# Altium footprint library molex-mod.PcbLib: 1 footprints
Each footprint in its own frame and in the unit in brackets; x right, y up, seen from the top. Pads: shape width x height; smd on the part's side, far side on the other; paste and mask are expansions set on the pad; w line width, h text height; cw(c..) or ccw(c..) is an arc to the next point about the centre after c.
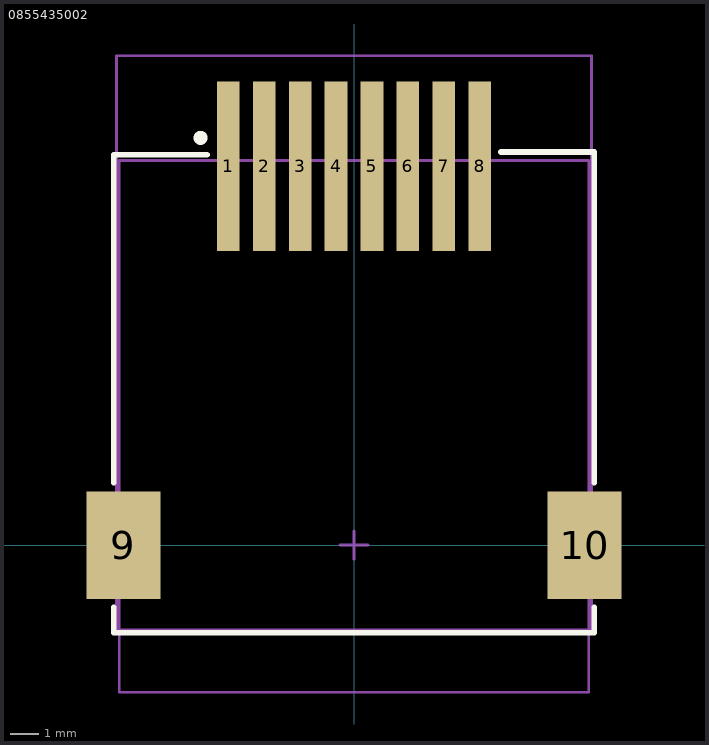
[diagram p0: the footprint, top view; thin cyan lines are the x and y axes]

## 0855435002 [mm] "Modular Jack, Right Angle, Fully Shielded, True SMT, BLI 13, Cat5"
height 13
pads (10):
  rect 0.8x6 smd: 1(-4.445,13.4) 2(-3.175,13.4) 3(-1.905,13.4) 4(-0.635,13.4) 5(0.635,13.4) 6(1.905,13.4) 7(3.175,13.4) 8(4.445,13.4)
  rect 2.6x3.8 smd: 9(-8.15,0) 10(8.15,0)
Top Overlay:
  circle w0.25: c-5.425,14.4 r0.125
  lines w0.2: -8.5,-2.2 -8.5,-3.1 8.5,-3.1 8.5,-2.2 ; -8.5,2.2 -8.5,13.8 -5.2,13.8 ; 5.2,13.9 8.5,13.9 8.5,2.2
Mechanical 13:
  lines w0.1: -0.5,0 0.5,0 ; 0,-0.5 0,0.5 ; -8.3,-5.2 8.3,-5.2 8.3,13.6 -8.3,13.6 -8.3,-5.2
Mechanical 15:
  lines w0.1: -8.4,-3 8.4,-3 8.4,17.3 -8.4,17.3 -8.4,-3
  text ".Designator" at -2.55,7.55 h0.5
3D body: height 13.2, standoff -0.05, extent -9.05,-5.2 9.05,15.7